# EAGLE library part A253-1450M1 (library saw-filters-narrowband)
A253-1450M1 Параметр Ед. изм. Мин. значение Тип. значение Макс. значение Центральная частота МГц 1449 1450 1451 Минимальное вносимое затухание дБ - 2.9 3.5 Полоса среза по уровню -2 дБ МГц 21 22.5 24 Полоса среза по уровню -28 дБ МГц - 69 69.5 Неравномерность АЧХ дБ - 0.6 1.5 Групповое время задержки нс - - - Гарантированное затухание дБ - 40 - Температурный диапазон °C -55 22 +85 Материал подложки - - Танталат лития 36 -
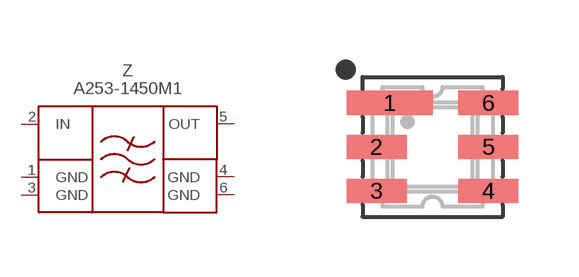
[diagram p21: symbol with the pads of DCC6; footprint DCC6]

Designator prefix Z

## A253-1450M1  [DCC6]
1  GND  pwr
2  IN  in
3  GND  pwr
4  GND  pwr
5  OUT  out
6  GND  pwr

## Footprint DCC6 (pad centres in mm)
smd 2.15 x 0.6: 1 -1.075,1.1
smd 1.5 x 0.6: 2 -1.4,0; 3 -1.4,-1.1; 4 1.4,-1.1; 5 1.4,0; 6 1.4,1.1